# Altium schematic symbol library 0603 LED.SchLib: 1 symbol
Pins are listed as number, name and electrical type; pins without a type are passive.

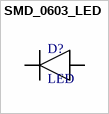
[diagram p0: symbol SMD_0603_LED]

## SMD_0603_LED
designator D?, comment LED
footprint SMD_0603_LED
pins: 1, 2